# EAGLE library part LP5912Q3.3DRVRQ1 (library Lp5912Q3.3DRV)
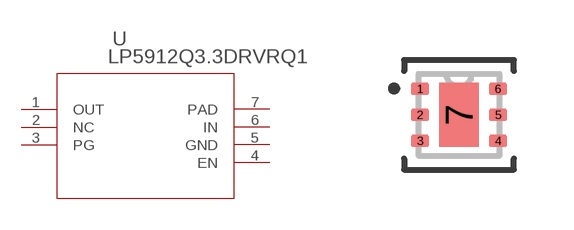
[diagram p0: symbol with the pads of DRV0006A; footprint DRV0006A]

Designator prefix -

## LP5912Q3.3DRVRQ1  [DRV0006A]
1  OUT  pwr
2  NC  pas
3  PG  out
4  EN  in
5  GND  pwr
6  IN  pwr
7  PAD  pwr

## Footprint DRV0006A (pad centres in mm)
smd 0.457 x 0.305: 1 -0.975,0.65; 2 -0.975,0; 3 -0.975,-0.65; 4 0.975,-0.65; 5 0.975,0; 6 0.975,0.65
smd 0.991 x 1.6: 7 0,0